# Altium schematic symbol library CRCW08051K00FKEA.SchLib: 1 symbol
Pins are listed as number, name and electrical type; pins without a type are passive.

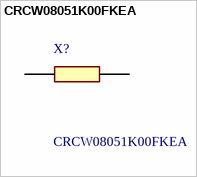
[diagram p0: symbol CRCW08051K00FKEA]

## CRCW08051K00FKEA
designator X?
Vishay CRCW Series Thick Film Surface Mount Resistor 0805 Case 1k +/-1% 0.125W +/-100ppm/C; Geometry.Height: 0.5mm; Mouser Part Number: 71-CRCW0805-1.0K-E3; Mouser Price/Stock: https://www.mouser.co.uk/ProductDetail/Vishay-Dale/CRCW08051K00FKEA?qs=DZvKvnD5UYU3bClwFPa9DQ%3D%3D; Manufacturer_Name: Vishay; Manufacturer_Part_Number: CRCW08051K00FKEA; Datasheet Link: http://www.vishay.com/docs/20035/dcrcwe3.pdf
footprint RESC2012X50N
pins: 1, 2